# EAGLE library part YICRLM5007 (library Traficon)
LM5007
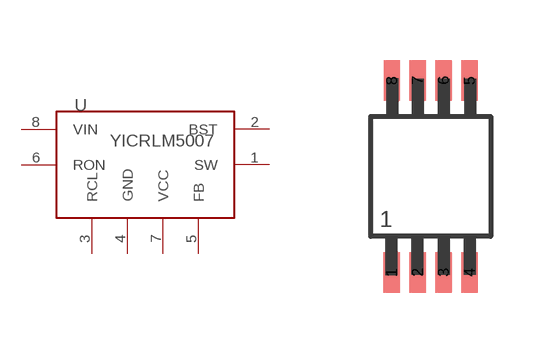
[diagram p18: symbol with the pads of MSOP8; footprint MSOP8]

Designator prefix U

## YICRLM5007  [MSOP8]
1  SW  out
2  BST  out
3  RCL  in
4  GND  in
5  FB  in
6  RON  in
7  VCC  in
8  VIN  in

## Footprint MSOP8 (pad centres in mm)
smd 0.41 x 1.02: 1 -0.975,-2.4; 2 -0.325,-2.4; 3 0.325,-2.4; 4 0.975,-2.4; 5 0.975,2.4; 6 0.325,2.4; 7 -0.325,2.4; 8 -0.97,2.4